# Altium integrated library Linear Technology PMIC-Switching Reg LTC1174-LTC3901.IntLib: 2647 symbols (part 210 of 310)
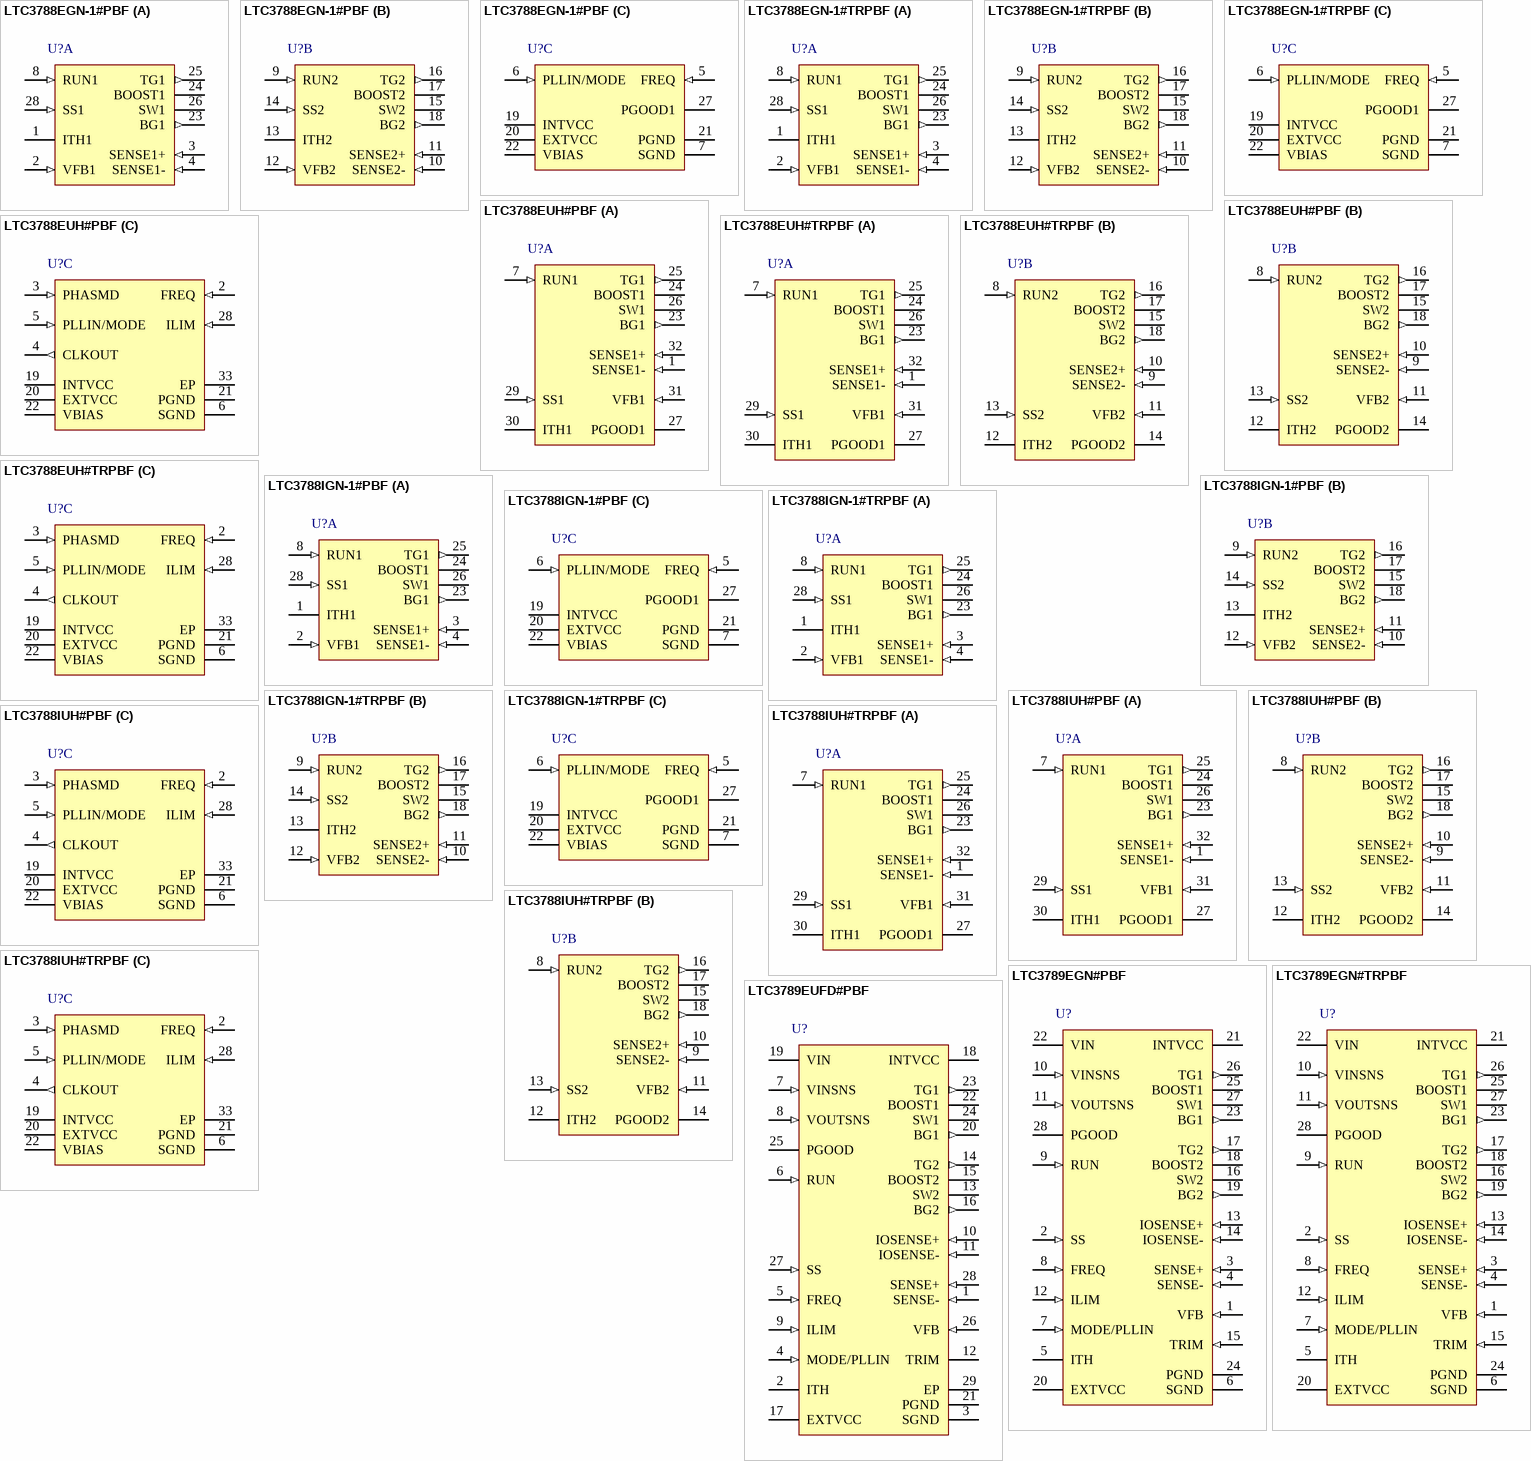
[diagram p239: symbols LTC3788EGN-1#PBF to LTC3789EUFD#PBF]

## LTC3789EUFD#PBF
designator U?
High Efficiency, Synchronous, 4-Switch Buck-Boost Controller, 28-pin QFN (UFD-28), -40 to 125 degC, Pb-Free; Manufacturer: Linear Technology; PartNumber: LTC3789EUFD#PBF; Number of Outputs: 1; PackageReference: UFD-28; PackageDescription: 28-Pin Plastic QFN, Body 5 x 4 mm, Pitch 0.5 mm; Supplier 1: Digi-Key; Supplier Part Number 1: LTC3789EUFD#PBF-ND; RoHS: TRUE; Code_JEDEC: MO-220
footprint LT-UFD-28_N (QFN, 28-Leads, Body 5.1x4.1mm, Pitch 0.5mm, Thermal Pad 3.65x2.65mm, IPC Medium Density)
footprint LT-UFD-28_L (QFN, 28-Leads, Body 5.1x4.1mm, Pitch 0.5mm, Thermal Pad 3.65x2.65mm, IPC High Density)
footprint LT-UFD-28_M (QFN, 28-Leads, Body 5.1x4.1mm, Pitch 0.5mm, Thermal Pad 3.65x2.65mm, IPC Low Density)
pins: 1 SENSE- (in) "The (-) Input to the Current Sense  Comparator.", 2 ITH "Error Amplifier Output and Switching Regulator Compensation Point. The channel’s  current comparatortrip pointincreaseswith this control voltage.", 3 SGND (power) "Small Signal Ground. Must be routed separately from high current grounds to the common (-) terminals of the CIN capacitors. In the QFN package, the exposed pad is SGND. It must be soldered to PCB ground for rated thermal (See Datasheet)", 4 MODE/PLLIN (in) "Mode Selection or External Synchronization Input to PhaseDetector. This is a dualpurpose pin. When external frequency synchronization is not used, this pin selects the operating mode. The pin can be tied to SGND or INTVCC. (See Datasheet)", 5 FREQ (in) "FrequencySetPin. Thereis a precision 10uA current flowing out of this pin. A resistor to ground  sets a voltage which, in turn, programs the frequency.  Alternatively, this pin can be driven with a DC voltage to  vary the (See Datasheet)", 6 RUN (in) "Run Control Input. Forcing the pin  below 0.5V shuts down the controller, reducing quies-  cent current. There are 1.2uA pull-up currents for this  pin. Once the RUN pin rises above 1.22V, the IC is turned  on, and an (See Datasheet)", 7 VINSNS (in) "VIN Sense Input to the Buck-Boost  Transition Comparator. Connect this pin to the drain of the  top N-channel MOSFET on the input side.", 8 VOUTSNS (in) "VOUT Sense Input to the BuckBoost Transition Comparator. Connect this pin to the drain  of the top N-channel MOSFET on the output side.", 9 ILIM (in) "Input/Output Average Current Sense Range Input. This pin tied to SGND, INTVCC or  left floating, sets the maximum average current sense  threshold.", 10 IOSENSE+ (in) "The (+) Input to the Input/Output  Average Current Sense Amplifier", 11 IOSENSE- (in) "The (-) Input to the Input/Output  Average Current Sense Amplifier.", 12 TRIM (power) "Tie this pin to GND for normal  operation. Do not allow this pin to float.", 13 SW2 "Switch Node Connections to Inductors. Voltage swing at the SW1  pin is from a Schottky diode (external) voltage drop below ground to VIN. Voltage swing at the SW2 pin is from a Schottky diode voltage drop below ground to V (See Datasheet)", 14 TG2 (out) "High Current Gate Drives for Top N-Channel MOSFETs. These are the outputs of floating drivers with a voltage swing equal to INTVCC - 0.5V superimposed on the switch node voltage SW.", 15 BOOST2 "Bootstrapped Supplies to the Top Side Floating Drivers. Capacitors are connected between the BOOST and SW pins and Schottkydiodes are tiedbetweentheBOOSTandINTVCC pins. Voltage swing at the BOOST1 pin is from INTVCC to (VIN (See Datasheet)", 16 BG2 (out) "High Current Gate Drives for Bottom (Synchronous) N-Channel MOSFETs. Voltage swing at these pins is from ground to  INTVCC.", 17 EXTVCC (power) "External Power Input to an  Internal LDO Connected to INTVCC. This LDO supplies  INTVCC power, bypassing the internal LDO powered from  VIN whenever EXTVCC is higher than 4.8V. See EXTVCC Connection in the Applications (See Datasheet)", 18 INTVCC (power) "Output of the Internal Linear Low  Dropout Regulator. The driver and control circuits are  powered from this voltage source. Must be bypassed to  powergroundwith a minimumof 4.7uF tantalum, ceramic,  or other low ESR (See Datasheet)", 19 VIN (power) "Main Supply Pin. A bypass capa-  citor should be tied between this pin and the signal  ground pin.", 20 BG1 (out) "High Current Gate Drives for Bottom (Synchronous) N-Channel MOSFETs. Voltage swing at these pins is from ground to  INTVCC.", 21 PGND (power) "Driver Power Ground. Connects  to COUT and RSENSE (-) terminal(s) of CIN", 22 BOOST1 "Bootstrapped Supplies to the Top Side Floating Drivers. Capacitors are connected between the BOOST and SW pins and Schottkydiodes are tiedbetweentheBOOSTandINTVCC pins. Voltage swing at the BOOST1 pin is from INTVCC to (VIN (See Datasheet)", 23 TG1 (out) "High Current Gate Drives for Top N-Channel MOSFETs. These are the outputs of floating drivers with a voltage swing equal to INTVCC - 0.5V superimposed on the switch node voltage SW.", 24 SW1 "Switch Node Connections to Inductors. Voltage swing at the SW1  pin is from a Schottky diode (external) voltage drop below ground to VIN. Voltage swing at the SW2 pin is from a Schottky diode voltage drop below ground to V (See Datasheet)", 25 PGOOD (oc) "Open-Drain Logic Output.  PGOOD is pulled to groundwhen the voltage on the VFB pin is notwithin +/-10% ofits regulationwindow, afterthe internal 20us power-bad mask timer expires.", 26 VFB (in) "Error Amplifier Feedback Pin. Receives  the feedback voltage for the controller from an external  resistive divider across the output.", 27 SS (in) "ExternalSoft-StartInput. TheLTC3789 regulates the VFB voltage to the smaller of 0.8V or the voltage on the SS pin. A internal 3uA pull-up current source is connected to this pin. A capacitor to ground at this pin sets the (See Datasheet)", 28 SENSE+ (in) "The (+) Input to the Current Sense  Comparator. The ITH pin voltage and controlled offsets  between the SENSE-  and SENSE+  pins, in conjunction  with RSENSE, set the current trip threshold.", 29 EP (power) "Small Signal Ground. Must be routed separately from high current grounds to the common (-) terminals of the CIN capacitors. In the QFN package, the exposed pad is SGND. It must be soldered to PCB ground for rated thermal (See Datasheet)"

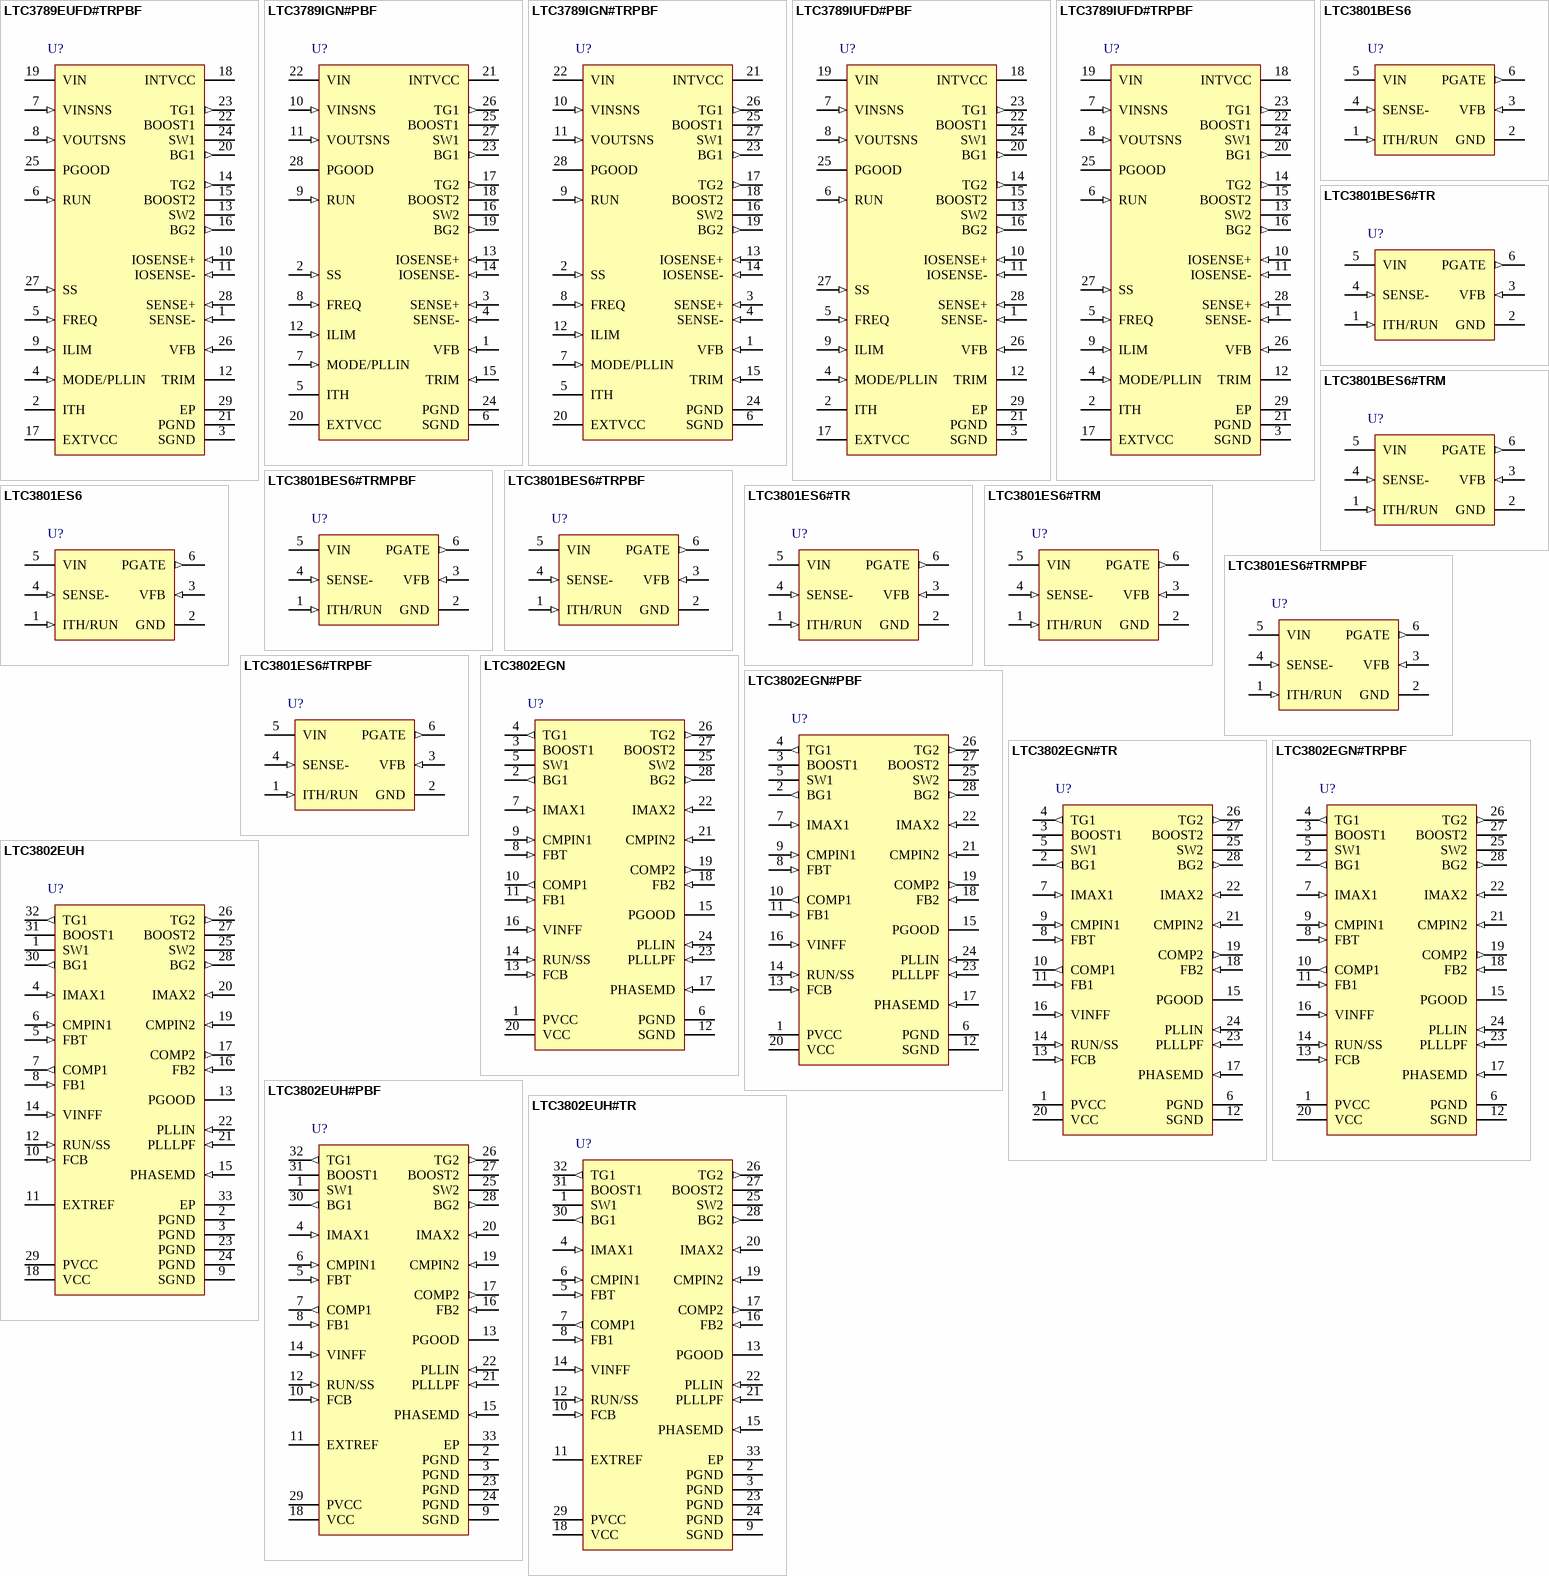
[diagram p74: symbols LTC3789EUFD#TRPBF to LTC3802EUH#TR]

## LTC3789EUFD#TRPBF
designator U?
High Efficiency, Synchronous, 4-Switch Buck-Boost Controller, 28-pin QFN (UFD-28), -40 to 125 degC, Pb-Free, Tape and Reel; Manufacturer: Linear Technology; PartNumber: LTC3789EUFD#TRPBF; Number of Outputs: 1; PackageReference: UFD-28; PackageDescription: 28-Pin Plastic QFN, Body 5 x 4 mm, Pitch 0.5 mm; Supplier 1: Digi-Key; Supplier Part Number 1: LTC3789EUFD#TRPBF-ND; RoHS: TRUE; Code_JEDEC: MO-220
footprint LT-UFD-28_N (QFN, 28-Leads, Body 5.1x4.1mm, Pitch 0.5mm, Thermal Pad 3.65x2.65mm, IPC Medium Density)
footprint LT-UFD-28_L (QFN, 28-Leads, Body 5.1x4.1mm, Pitch 0.5mm, Thermal Pad 3.65x2.65mm, IPC High Density)
footprint LT-UFD-28_M (QFN, 28-Leads, Body 5.1x4.1mm, Pitch 0.5mm, Thermal Pad 3.65x2.65mm, IPC Low Density)
pins: 1 SENSE- (in) "The (-) Input to the Current Sense  Comparator.", 2 ITH "Error Amplifier Output and Switching Regulator Compensation Point. The channel’s  current comparatortrip pointincreaseswith this control voltage.", 3 SGND (power) "Small Signal Ground. Must be routed separately from high current grounds to the common (-) terminals of the CIN capacitors. In the QFN package, the exposed pad is SGND. It must be soldered to PCB ground for rated thermal (See Datasheet)", 4 MODE/PLLIN (in) "Mode Selection or External Synchronization Input to PhaseDetector. This is a dualpurpose pin. When external frequency synchronization is not used, this pin selects the operating mode. The pin can be tied to SGND or INTVCC. (See Datasheet)", 5 FREQ (in) "FrequencySetPin. Thereis a precision 10uA current flowing out of this pin. A resistor to ground  sets a voltage which, in turn, programs the frequency.  Alternatively, this pin can be driven with a DC voltage to  vary the (See Datasheet)", 6 RUN (in) "Run Control Input. Forcing the pin  below 0.5V shuts down the controller, reducing quies-  cent current. There are 1.2uA pull-up currents for this  pin. Once the RUN pin rises above 1.22V, the IC is turned  on, and an (See Datasheet)", 7 VINSNS (in) "VIN Sense Input to the Buck-Boost  Transition Comparator. Connect this pin to the drain of the  top N-channel MOSFET on the input side.", 8 VOUTSNS (in) "VOUT Sense Input to the BuckBoost Transition Comparator. Connect this pin to the drain  of the top N-channel MOSFET on the output side.", 9 ILIM (in) "Input/Output Average Current Sense Range Input. This pin tied to SGND, INTVCC or  left floating, sets the maximum average current sense  threshold.", 10 IOSENSE+ (in) "The (+) Input to the Input/Output  Average Current Sense Amplifier", 11 IOSENSE- (in) "The (-) Input to the Input/Output  Average Current Sense Amplifier.", 12 TRIM (power) "Tie this pin to GND for normal  operation. Do not allow this pin to float.", 13 SW2 "Switch Node Connections to Inductors. Voltage swing at the SW1  pin is from a Schottky diode (external) voltage drop below ground to VIN. Voltage swing at the SW2 pin is from a Schottky diode voltage drop below ground to V (See Datasheet)", 14 TG2 (out) "High Current Gate Drives for Top N-Channel MOSFETs. These are the outputs of floating drivers with a voltage swing equal to INTVCC - 0.5V superimposed on the switch node voltage SW.", 15 BOOST2 "Bootstrapped Supplies to the Top Side Floating Drivers. Capacitors are connected between the BOOST and SW pins and Schottkydiodes are tiedbetweentheBOOSTandINTVCC pins. Voltage swing at the BOOST1 pin is from INTVCC to (VIN (See Datasheet)", 16 BG2 (out) "High Current Gate Drives for Bottom (Synchronous) N-Channel MOSFETs. Voltage swing at these pins is from ground to  INTVCC.", 17 EXTVCC (power) "External Power Input to an  Internal LDO Connected to INTVCC. This LDO supplies  INTVCC power, bypassing the internal LDO powered from  VIN whenever EXTVCC is higher than 4.8V. See EXTVCC Connection in the Applications (See Datasheet)", 18 INTVCC (power) "Output of the Internal Linear Low  Dropout Regulator. The driver and control circuits are  powered from this voltage source. Must be bypassed to  powergroundwith a minimumof 4.7uF tantalum, ceramic,  or other low ESR (See Datasheet)", 19 VIN (power) "Main Supply Pin. A bypass capa-  citor should be tied between this pin and the signal  ground pin.", 20 BG1 (out) "High Current Gate Drives for Bottom (Synchronous) N-Channel MOSFETs. Voltage swing at these pins is from ground to  INTVCC.", 21 PGND (power) "Driver Power Ground. Connects  to COUT and RSENSE (-) terminal(s) of CIN", 22 BOOST1 "Bootstrapped Supplies to the Top Side Floating Drivers. Capacitors are connected between the BOOST and SW pins and Schottkydiodes are tiedbetweentheBOOSTandINTVCC pins. Voltage swing at the BOOST1 pin is from INTVCC to (VIN (See Datasheet)", 23 TG1 (out) "High Current Gate Drives for Top N-Channel MOSFETs. These are the outputs of floating drivers with a voltage swing equal to INTVCC - 0.5V superimposed on the switch node voltage SW.", 24 SW1 "Switch Node Connections to Inductors. Voltage swing at the SW1  pin is from a Schottky diode (external) voltage drop below ground to VIN. Voltage swing at the SW2 pin is from a Schottky diode voltage drop below ground to V (See Datasheet)", 25 PGOOD (oc) "Open-Drain Logic Output.  PGOOD is pulled to groundwhen the voltage on the VFB pin is notwithin +/-10% ofits regulationwindow, afterthe internal 20us power-bad mask timer expires.", 26 VFB (in) "Error Amplifier Feedback Pin. Receives  the feedback voltage for the controller from an external  resistive divider across the output.", 27 SS (in) "ExternalSoft-StartInput. TheLTC3789 regulates the VFB voltage to the smaller of 0.8V or the voltage on the SS pin. A internal 3uA pull-up current source is connected to this pin. A capacitor to ground at this pin sets the (See Datasheet)", 28 SENSE+ (in) "The (+) Input to the Current Sense  Comparator. The ITH pin voltage and controlled offsets  between the SENSE-  and SENSE+  pins, in conjunction  with RSENSE, set the current trip threshold.", 29 EP (power) "Small Signal Ground. Must be routed separately from high current grounds to the common (-) terminals of the CIN capacitors. In the QFN package, the exposed pad is SGND. It must be soldered to PCB ground for rated thermal (See Datasheet)"

## LTC3789IGN#PBF
designator U?
High Efficiency, Synchronous, 4-Switch Buck-Boost Controller, 28-pin SOP (GN-28), -40 to 125 degC, Pb-Free; Manufacturer: Linear Technology; PartNumber: LTC3789IGN#PBF; Number of Outputs: 1; PackageReference: GN-28; PackageDescription: 28-Pin Plastic SSOP, Body 9.9 x 3.9 mm, Pitch 0.635 mm; Supplier 1: Digi-Key; Supplier Part Number 1: LTC3789IGN#PBF-ND; RoHS: TRUE
footprint LT-GN-28_N (SOP, 28-Leads, Body 9.98x3.98mm, Pitch 0.635mm, IPC Medium Density)
footprint LT-GN-28_L (SOP, 28-Leads, Body 9.98x3.98mm, Pitch 0.635mm, IPC High Density)
footprint LT-GN-28_M (SOP, 28-Leads, Body 9.98x3.98mm, Pitch 0.635mm, IPC Low Density)
pins: 1 VFB (in) "Error Amplifier Feedback Pin. Receives the feedback voltage for the controller from an external resistive divider across the output.", 2 SS (in) "External Soft-Start Input. The LTC3789 regulates the VFB voltage to the smaller of 0.8V or the voltage on the SS pin. A internal 3uA pull-up current source is connected to this pin. A capacitor to ground at this pin sets the (See Datasheet)", 3 SENSE+ (in) "The (+) Input to the Current Sense Comparator. The ITH pin voltage and controlled offsets between the SENSE- and SENSE+ pins, in conjunction with RSENSE, set the current trip threshold.", 4 SENSE- (in) "The (-) Input to the Current Sense Comparator.", 5 ITH "Error Amplifier Output and Switching Regulator Compensation Point. The channel’s current comparator trip point increases with this control voltage.", 6 SGND (power) "Small Signal Ground. Must be routed separately from high current grounds to the common (-) terminals of the CIN capacitors. In the QFN package, the exposed pad is SGND. It must be soldered to PCB ground for rated thermal (See Datasheet)", 7 MODE/PLLIN (in), 8 FREQ (in) "Frequency Set Pin. There is a precision 10uA current flowing out of this pin. A resistor to ground sets a voltage which, in turn, programs the frequency. Alternatively, this pin can be driven with a DC voltage to vary the (See Datasheet)", 9 RUN (in) "Run Control Input. Forcing the pin below 0.5V shuts down the controller, reducing quiescent current. There are 1.2uA pull-up currents for this pin. Once the RUN pin rises above 1.22V, the IC is turned on, and an additional (See Datasheet)", 10 VINSNS (in) "VIN Sense Input to the Buck-Boost Transition Comparator. Connect this pin to the drain of the top N-channel MOSFET on the input side.", 11 VOUTSNS (in) "VOUT Sense Input to the Buck- Boost Transition Comparator. Connect this pin to the drain of the top N-channel MOSFET on the output side.", 12 ILIM (in) "Input/Output Average Current Sense Range Input. This pin tied to SGND, INTVCC or left floating, sets the maximum average current sense threshold.", 13 IOSENSE+ (in) "The (+) Input to the Input/Output Average Current Sense Amplifier.", 14 IOSENSE- (in) "The (-) Input to the Input/Output Average Current Sense Amplifier.", 15 TRIM (in) "Tie this pin to GND for normal operation. Do not allow this pin to float.", 16 SW2 "Switch Node Connections to Inductors. Voltage swing at the SW1 pin is from a Schottky diode (external) voltage drop below ground to VIN. Voltage swing at the SW2 pin is from a Schottky diode voltage drop below ground to VOUT.", 17 TG2 (out) "High Current Gate Drives for Top N-Channel MOSFETs. These are the outputs of floating drivers with a voltage swing equal to INTVCC - 0.5V superimposed on the switch node voltage SW.", 18 BOOST2 "Bootstrapped Supplies to the Top Side Floating Drivers. Capacitors are connected between the BOOST and SW pins and Schottky diodes are tied between the BOOST and INTVCC pins. Voltage swing at the BOOST1 pin is from INTVCC to (See Datasheet)", 19 BG2 (out) "High Current Gate Drives for Bottom (Synchronous) N-Channel MOSFETs. Voltage swing at these pins is from ground to INTVCC.", 20 EXTVCC (power) "External Power Input to an Internal LDO Connected to INTVCC. This LDO supplies INTVCC power, bypassing the internal LDO powered from VIN whenever EXTVCC is higher than 4.8V. See EXTVCC Connection in the Applications (See Datasheet)", 21 INTVCC (power) "Output of the Internal Linear Low Dropout Regulator. The driver and control circuits are powered from this voltage source. Must be bypassed to power ground with a minimum of 4.7uF tantalum, ceramic, or other low ESR (See Datasheet)", 22 VIN (power) "Main Supply Pin. A bypass capacitor should be tied between this pin and the signal ground pin.", 23 BG1 (out) "High Current Gate Drives for Bottom (Synchronous) N-Channel MOSFETs. Voltage swing at these pins is from ground to INTVCC.", 24 PGND (power) "Driver Power Ground. Connects to COUT and RSENSE (-) terminal(s) of CIN.", 25 BOOST1 "Bootstrapped Supplies to the Top Side Floating Drivers. Capacitors are connected between the BOOST and SW pins and Schottky diodes are tied between the BOOST and INTVCC pins. Voltage swing at the BOOST1 pin is from INTVCC to (See Datasheet)", 26 TG1 (out) "High Current Gate Drives for Top N-Channel MOSFETs. These are the outputs of floating drivers with a voltage swing equal to INTVCC - 0.5V superimposed on the switch node voltage SW.", 27 SW1 "Switch Node Connections to Inductors. Voltage swing at the SW1 pin is from a Schottky diode (external) voltage drop below ground to VIN. Voltage swing at the SW2 pin is from a Schottky diode voltage drop below ground to VOUT.", 28 PGOOD (oc) "Open-Drain Logic Output. PGOOD is pulled to ground when the voltage on the VFB pin is not within +/-10% of its regulation window, after the internal 20us power-bad mask timer expires."

## LTC3789IGN#TRPBF
designator U?
High Efficiency, Synchronous, 4-Switch Buck-Boost Controller, 28-pin SOP (GN-28), -40 to 125 degC, Pb-Free, Tape and Reel; Manufacturer: Linear Technology; PartNumber: LTC3789IGN#TRPBF; Number of Outputs: 1; PackageReference: GN-28; PackageDescription: 28-Pin Plastic SSOP, Body 9.9 x 3.9 mm, Pitch 0.635 mm; Supplier 1: Digi-Key; Supplier Part Number 1: LTC3789IGN#TRPBF-ND; RoHS: TRUE
footprint LT-GN-28_N (SOP, 28-Leads, Body 9.98x3.98mm, Pitch 0.635mm, IPC Medium Density)
footprint LT-GN-28_L (SOP, 28-Leads, Body 9.98x3.98mm, Pitch 0.635mm, IPC High Density)
footprint LT-GN-28_M (SOP, 28-Leads, Body 9.98x3.98mm, Pitch 0.635mm, IPC Low Density)
pins: 1 VFB (in) "Error Amplifier Feedback Pin. Receives the feedback voltage for the controller from an external resistive divider across the output.", 2 SS (in) "External Soft-Start Input. The LTC3789 regulates the VFB voltage to the smaller of 0.8V or the voltage on the SS pin. A internal 3uA pull-up current source is connected to this pin. A capacitor to ground at this pin sets the (See Datasheet)", 3 SENSE+ (in) "The (+) Input to the Current Sense Comparator. The ITH pin voltage and controlled offsets between the SENSE- and SENSE+ pins, in conjunction with RSENSE, set the current trip threshold.", 4 SENSE- (in) "The (-) Input to the Current Sense Comparator.", 5 ITH "Error Amplifier Output and Switching Regulator Compensation Point. The channel’s current comparator trip point increases with this control voltage.", 6 SGND (power) "Small Signal Ground. Must be routed separately from high current grounds to the common (-) terminals of the CIN capacitors. In the QFN package, the exposed pad is SGND. It must be soldered to PCB ground for rated thermal (See Datasheet)", 7 MODE/PLLIN (in), 8 FREQ (in) "Frequency Set Pin. There is a precision 10uA current flowing out of this pin. A resistor to ground sets a voltage which, in turn, programs the frequency. Alternatively, this pin can be driven with a DC voltage to vary the (See Datasheet)", 9 RUN (in) "Run Control Input. Forcing the pin below 0.5V shuts down the controller, reducing quiescent current. There are 1.2uA pull-up currents for this pin. Once the RUN pin rises above 1.22V, the IC is turned on, and an additional (See Datasheet)", 10 VINSNS (in) "VIN Sense Input to the Buck-Boost Transition Comparator. Connect this pin to the drain of the top N-channel MOSFET on the input side.", 11 VOUTSNS (in) "VOUT Sense Input to the Buck- Boost Transition Comparator. Connect this pin to the drain of the top N-channel MOSFET on the output side.", 12 ILIM (in) "Input/Output Average Current Sense Range Input. This pin tied to SGND, INTVCC or left floating, sets the maximum average current sense threshold.", 13 IOSENSE+ (in) "The (+) Input to the Input/Output Average Current Sense Amplifier.", 14 IOSENSE- (in) "The (-) Input to the Input/Output Average Current Sense Amplifier.", 15 TRIM (in) "Tie this pin to GND for normal operation. Do not allow this pin to float.", 16 SW2 "Switch Node Connections to Inductors. Voltage swing at the SW1 pin is from a Schottky diode (external) voltage drop below ground to VIN. Voltage swing at the SW2 pin is from a Schottky diode voltage drop below ground to VOUT.", 17 TG2 (out) "High Current Gate Drives for Top N-Channel MOSFETs. These are the outputs of floating drivers with a voltage swing equal to INTVCC - 0.5V superimposed on the switch node voltage SW.", 18 BOOST2 "Bootstrapped Supplies to the Top Side Floating Drivers. Capacitors are connected between the BOOST and SW pins and Schottky diodes are tied between the BOOST and INTVCC pins. Voltage swing at the BOOST1 pin is from INTVCC to (See Datasheet)", 19 BG2 (out) "High Current Gate Drives for Bottom (Synchronous) N-Channel MOSFETs. Voltage swing at these pins is from ground to INTVCC.", 20 EXTVCC (power) "External Power Input to an Internal LDO Connected to INTVCC. This LDO supplies INTVCC power, bypassing the internal LDO powered from VIN whenever EXTVCC is higher than 4.8V. See EXTVCC Connection in the Applications (See Datasheet)", 21 INTVCC (power) "Output of the Internal Linear Low Dropout Regulator. The driver and control circuits are powered from this voltage source. Must be bypassed to power ground with a minimum of 4.7uF tantalum, ceramic, or other low ESR (See Datasheet)", 22 VIN (power) "Main Supply Pin. A bypass capacitor should be tied between this pin and the signal ground pin.", 23 BG1 (out) "High Current Gate Drives for Bottom (Synchronous) N-Channel MOSFETs. Voltage swing at these pins is from ground to INTVCC.", 24 PGND (power) "Driver Power Ground. Connects to COUT and RSENSE (-) terminal(s) of CIN.", 25 BOOST1 "Bootstrapped Supplies to the Top Side Floating Drivers. Capacitors are connected between the BOOST and SW pins and Schottky diodes are tied between the BOOST and INTVCC pins. Voltage swing at the BOOST1 pin is from INTVCC to (See Datasheet)", 26 TG1 (out) "High Current Gate Drives for Top N-Channel MOSFETs. These are the outputs of floating drivers with a voltage swing equal to INTVCC - 0.5V superimposed on the switch node voltage SW.", 27 SW1 "Switch Node Connections to Inductors. Voltage swing at the SW1 pin is from a Schottky diode (external) voltage drop below ground to VIN. Voltage swing at the SW2 pin is from a Schottky diode voltage drop below ground to VOUT.", 28 PGOOD (oc) "Open-Drain Logic Output. PGOOD is pulled to ground when the voltage on the VFB pin is not within +/-10% of its regulation window, after the internal 20us power-bad mask timer expires."

## LTC3789IUFD#PBF
designator U?
High Efficiency, Synchronous, 4-Switch Buck-Boost Controller, 28-pin QFN (UFD-28), -40 to 125 degC, Pb-Free; Manufacturer: Linear Technology; PartNumber: LTC3789IUFD#PBF; Number of Outputs: 1; PackageReference: UFD-28; PackageDescription: 28-Pin Plastic QFN, Body 5 x 4 mm, Pitch 0.5 mm; Supplier 1: Digi-Key; Supplier Part Number 1: LTC3789IUFD#PBF-ND; RoHS: TRUE; Code_JEDEC: MO-220
footprint LT-UFD-28_N (QFN, 28-Leads, Body 5.1x4.1mm, Pitch 0.5mm, Thermal Pad 3.65x2.65mm, IPC Medium Density)
footprint LT-UFD-28_L (QFN, 28-Leads, Body 5.1x4.1mm, Pitch 0.5mm, Thermal Pad 3.65x2.65mm, IPC High Density)
footprint LT-UFD-28_M (QFN, 28-Leads, Body 5.1x4.1mm, Pitch 0.5mm, Thermal Pad 3.65x2.65mm, IPC Low Density)
pins: 1 SENSE- (in) "The (-) Input to the Current Sense  Comparator.", 2 ITH "Error Amplifier Output and Switching Regulator Compensation Point. The channel’s  current comparatortrip pointincreaseswith this control voltage.", 3 SGND (power) "Small Signal Ground. Must be routed separately from high current grounds to the common (-) terminals of the CIN capacitors. In the QFN package, the exposed pad is SGND. It must be soldered to PCB ground for rated thermal (See Datasheet)", 4 MODE/PLLIN (in) "Mode Selection or External Synchronization Input to PhaseDetector. This is a dualpurpose pin. When external frequency synchronization is not used, this pin selects the operating mode. The pin can be tied to SGND or INTVCC. (See Datasheet)", 5 FREQ (in) "FrequencySetPin. Thereis a precision 10uA current flowing out of this pin. A resistor to ground  sets a voltage which, in turn, programs the frequency.  Alternatively, this pin can be driven with a DC voltage to  vary the (See Datasheet)", 6 RUN (in) "Run Control Input. Forcing the pin  below 0.5V shuts down the controller, reducing quies-  cent current. There are 1.2uA pull-up currents for this  pin. Once the RUN pin rises above 1.22V, the IC is turned  on, and an (See Datasheet)", 7 VINSNS (in) "VIN Sense Input to the Buck-Boost  Transition Comparator. Connect this pin to the drain of the  top N-channel MOSFET on the input side.", 8 VOUTSNS (in) "VOUT Sense Input to the BuckBoost Transition Comparator. Connect this pin to the drain  of the top N-channel MOSFET on the output side.", 9 ILIM (in) "Input/Output Average Current Sense Range Input. This pin tied to SGND, INTVCC or  left floating, sets the maximum average current sense  threshold.", 10 IOSENSE+ (in) "The (+) Input to the Input/Output  Average Current Sense Amplifier", 11 IOSENSE- (in) "The (-) Input to the Input/Output  Average Current Sense Amplifier.", 12 TRIM (power) "Tie this pin to GND for normal  operation. Do not allow this pin to float.", 13 SW2 "Switch Node Connections to Inductors. Voltage swing at the SW1  pin is from a Schottky diode (external) voltage drop below ground to VIN. Voltage swing at the SW2 pin is from a Schottky diode voltage drop below ground to V (See Datasheet)", 14 TG2 (out) "High Current Gate Drives for Top N-Channel MOSFETs. These are the outputs of floating drivers with a voltage swing equal to INTVCC - 0.5V superimposed on the switch node voltage SW.", 15 BOOST2 "Bootstrapped Supplies to the Top Side Floating Drivers. Capacitors are connected between the BOOST and SW pins and Schottkydiodes are tiedbetweentheBOOSTandINTVCC pins. Voltage swing at the BOOST1 pin is from INTVCC to (VIN (See Datasheet)", 16 BG2 (out) "High Current Gate Drives for Bottom (Synchronous) N-Channel MOSFETs. Voltage swing at these pins is from ground to  INTVCC.", 17 EXTVCC (power) "External Power Input to an  Internal LDO Connected to INTVCC. This LDO supplies  INTVCC power, bypassing the internal LDO powered from  VIN whenever EXTVCC is higher than 4.8V. See EXTVCC Connection in the Applications (See Datasheet)", 18 INTVCC (power) "Output of the Internal Linear Low  Dropout Regulator. The driver and control circuits are  powered from this voltage source. Must be bypassed to  powergroundwith a minimumof 4.7uF tantalum, ceramic,  or other low ESR (See Datasheet)", 19 VIN (power) "Main Supply Pin. A bypass capa-  citor should be tied between this pin and the signal  ground pin.", 20 BG1 (out) "High Current Gate Drives for Bottom (Synchronous) N-Channel MOSFETs. Voltage swing at these pins is from ground to  INTVCC.", 21 PGND (power) "Driver Power Ground. Connects  to COUT and RSENSE (-) terminal(s) of CIN", 22 BOOST1 "Bootstrapped Supplies to the Top Side Floating Drivers. Capacitors are connected between the BOOST and SW pins and Schottkydiodes are tiedbetweentheBOOSTandINTVCC pins. Voltage swing at the BOOST1 pin is from INTVCC to (VIN (See Datasheet)", 23 TG1 (out) "High Current Gate Drives for Top N-Channel MOSFETs. These are the outputs of floating drivers with a voltage swing equal to INTVCC - 0.5V superimposed on the switch node voltage SW.", 24 SW1 "Switch Node Connections to Inductors. Voltage swing at the SW1  pin is from a Schottky diode (external) voltage drop below ground to VIN. Voltage swing at the SW2 pin is from a Schottky diode voltage drop below ground to V (See Datasheet)", 25 PGOOD (oc) "Open-Drain Logic Output.  PGOOD is pulled to groundwhen the voltage on the VFB pin is notwithin +/-10% ofits regulationwindow, afterthe internal 20us power-bad mask timer expires.", 26 VFB (in) "Error Amplifier Feedback Pin. Receives  the feedback voltage for the controller from an external  resistive divider across the output.", 27 SS (in) "ExternalSoft-StartInput. TheLTC3789 regulates the VFB voltage to the smaller of 0.8V or the voltage on the SS pin. A internal 3uA pull-up current source is connected to this pin. A capacitor to ground at this pin sets the (See Datasheet)", 28 SENSE+ (in) "The (+) Input to the Current Sense  Comparator. The ITH pin voltage and controlled offsets  between the SENSE-  and SENSE+  pins, in conjunction  with RSENSE, set the current trip threshold.", 29 EP (power) "Small Signal Ground. Must be routed separately from high current grounds to the common (-) terminals of the CIN capacitors. In the QFN package, the exposed pad is SGND. It must be soldered to PCB ground for rated thermal (See Datasheet)"

## LTC3789IUFD#TRPBF
designator U?
High Efficiency, Synchronous, 4-Switch Buck-Boost Controller, 28-pin QFN (UFD-28), -40 to 125 degC, Pb-Free, Tape and Reel; Manufacturer: Linear Technology; PartNumber: LTC3789IUFD#TRPBF; Number of Outputs: 1; PackageReference: UFD-28; PackageDescription: 28-Pin Plastic QFN, Body 5 x 4 mm, Pitch 0.5 mm; Supplier 1: Digi-Key; Supplier Part Number 1: LTC3789IUFD#TRPBF-ND; RoHS: TRUE; Code_JEDEC: MO-220
footprint LT-UFD-28_N (QFN, 28-Leads, Body 5.1x4.1mm, Pitch 0.5mm, Thermal Pad 3.65x2.65mm, IPC Medium Density)
footprint LT-UFD-28_L (QFN, 28-Leads, Body 5.1x4.1mm, Pitch 0.5mm, Thermal Pad 3.65x2.65mm, IPC High Density)
footprint LT-UFD-28_M (QFN, 28-Leads, Body 5.1x4.1mm, Pitch 0.5mm, Thermal Pad 3.65x2.65mm, IPC Low Density)
pins: 1 SENSE- (in) "The (-) Input to the Current Sense  Comparator.", 2 ITH "Error Amplifier Output and Switching Regulator Compensation Point. The channel’s  current comparatortrip pointincreaseswith this control voltage.", 3 SGND (power) "Small Signal Ground. Must be routed separately from high current grounds to the common (-) terminals of the CIN capacitors. In the QFN package, the exposed pad is SGND. It must be soldered to PCB ground for rated thermal (See Datasheet)", 4 MODE/PLLIN (in) "Mode Selection or External Synchronization Input to PhaseDetector. This is a dualpurpose pin. When external frequency synchronization is not used, this pin selects the operating mode. The pin can be tied to SGND or INTVCC. (See Datasheet)", 5 FREQ (in) "FrequencySetPin. Thereis a precision 10uA current flowing out of this pin. A resistor to ground  sets a voltage which, in turn, programs the frequency.  Alternatively, this pin can be driven with a DC voltage to  vary the (See Datasheet)", 6 RUN (in) "Run Control Input. Forcing the pin  below 0.5V shuts down the controller, reducing quies-  cent current. There are 1.2uA pull-up currents for this  pin. Once the RUN pin rises above 1.22V, the IC is turned  on, and an (See Datasheet)", 7 VINSNS (in) "VIN Sense Input to the Buck-Boost  Transition Comparator. Connect this pin to the drain of the  top N-channel MOSFET on the input side.", 8 VOUTSNS (in) "VOUT Sense Input to the BuckBoost Transition Comparator. Connect this pin to the drain  of the top N-channel MOSFET on the output side.", 9 ILIM (in) "Input/Output Average Current Sense Range Input. This pin tied to SGND, INTVCC or  left floating, sets the maximum average current sense  threshold.", 10 IOSENSE+ (in) "The (+) Input to the Input/Output  Average Current Sense Amplifier", 11 IOSENSE- (in) "The (-) Input to the Input/Output  Average Current Sense Amplifier.", 12 TRIM (power) "Tie this pin to GND for normal  operation. Do not allow this pin to float.", 13 SW2 "Switch Node Connections to Inductors. Voltage swing at the SW1  pin is from a Schottky diode (external) voltage drop below ground to VIN. Voltage swing at the SW2 pin is from a Schottky diode voltage drop below ground to V (See Datasheet)", 14 TG2 (out) "High Current Gate Drives for Top N-Channel MOSFETs. These are the outputs of floating drivers with a voltage swing equal to INTVCC - 0.5V superimposed on the switch node voltage SW.", 15 BOOST2 "Bootstrapped Supplies to the Top Side Floating Drivers. Capacitors are connected between the BOOST and SW pins and Schottkydiodes are tiedbetweentheBOOSTandINTVCC pins. Voltage swing at the BOOST1 pin is from INTVCC to (VIN (See Datasheet)", 16 BG2 (out) "High Current Gate Drives for Bottom (Synchronous) N-Channel MOSFETs. Voltage swing at these pins is from ground to  INTVCC.", 17 EXTVCC (power) "External Power Input to an  Internal LDO Connected to INTVCC. This LDO supplies  INTVCC power, bypassing the internal LDO powered from  VIN whenever EXTVCC is higher than 4.8V. See EXTVCC Connection in the Applications (See Datasheet)", 18 INTVCC (power) "Output of the Internal Linear Low  Dropout Regulator. The driver and control circuits are  powered from this voltage source. Must be bypassed to  powergroundwith a minimumof 4.7uF tantalum, ceramic,  or other low ESR (See Datasheet)", 19 VIN (power) "Main Supply Pin. A bypass capa-  citor should be tied between this pin and the signal  ground pin.", 20 BG1 (out) "High Current Gate Drives for Bottom (Synchronous) N-Channel MOSFETs. Voltage swing at these pins is from ground to  INTVCC.", 21 PGND (power) "Driver Power Ground. Connects  to COUT and RSENSE (-) terminal(s) of CIN", 22 BOOST1 "Bootstrapped Supplies to the Top Side Floating Drivers. Capacitors are connected between the BOOST and SW pins and Schottkydiodes are tiedbetweentheBOOSTandINTVCC pins. Voltage swing at the BOOST1 pin is from INTVCC to (VIN (See Datasheet)", 23 TG1 (out) "High Current Gate Drives for Top N-Channel MOSFETs. These are the outputs of floating drivers with a voltage swing equal to INTVCC - 0.5V superimposed on the switch node voltage SW.", 24 SW1 "Switch Node Connections to Inductors. Voltage swing at the SW1  pin is from a Schottky diode (external) voltage drop below ground to VIN. Voltage swing at the SW2 pin is from a Schottky diode voltage drop below ground to V (See Datasheet)", 25 PGOOD (oc) "Open-Drain Logic Output.  PGOOD is pulled to groundwhen the voltage on the VFB pin is notwithin +/-10% ofits regulationwindow, afterthe internal 20us power-bad mask timer expires.", 26 VFB (in) "Error Amplifier Feedback Pin. Receives  the feedback voltage for the controller from an external  resistive divider across the output.", 27 SS (in) "ExternalSoft-StartInput. TheLTC3789 regulates the VFB voltage to the smaller of 0.8V or the voltage on the SS pin. A internal 3uA pull-up current source is connected to this pin. A capacitor to ground at this pin sets the (See Datasheet)", 28 SENSE+ (in) "The (+) Input to the Current Sense  Comparator. The ITH pin voltage and controlled offsets  between the SENSE-  and SENSE+  pins, in conjunction  with RSENSE, set the current trip threshold.", 29 EP (power) "Small Signal Ground. Must be routed separately from high current grounds to the common (-) terminals of the CIN capacitors. In the QFN package, the exposed pad is SGND. It must be soldered to PCB ground for rated thermal (See Datasheet)"

## LTC3801BES6
designator U?
Micropower Constant Frequency Step-Down DC/DC Controller, No Burst Mode, 6-pin SOT23 (S6-6), -40 to 85 degC; Manufacturer: Linear Technology; PartNumber: LTC3801BES6; Number of Outputs: 1; PackageReference: S6-6; PackageDescription: 6-Pin Plastic TSOT-23, Body 2.9 x 1.63 mm, Pitch 0.95 mm; RoHS: FALSE; Code_JEDEC: MO-193
footprint LT-S6-6-TSOT-23_N (SOT23, 6-Leads, Body 2.9x1.75mm, Pitch 0.95mm, IPC Medium Density)
footprint LT-S6-6-TSOT-23_L (SOT23, 6-Leads, Body 2.9x1.75mm, Pitch 0.95mm, IPC High Density)
footprint LT-S6-6-TSOT-23_M (SOT23, 6-Leads, Body 2.9x1.75mm, Pitch 0.95mm, IPC Low Density)
pins: 1 ITH/RUN (in), 2 GND (power) "Ground Pin.", 3 VFB (in), 4 SENSE- (in), 5 VIN (power), 6 PGATE (out) "Gate Drive for the External P-Channel MOSFET. This pin swings from 0V to VIN."

## LTC3801BES6#TR
designator U?
Micropower Constant Frequency Step-Down DC/DC Controller, No Burst Mode, 6-pin SOT23 (S6-6), -40 to 85 degC, Pb-Free, Tape and Reel; Manufacturer: Linear Technology; PartNumber: LTC3801BES6#TR; Number of Outputs: 1; PackageReference: S6-6; PackageDescription: 6-Pin Plastic TSOT-23, Body 2.9 x 1.63 mm, Pitch 0.95 mm; Supplier 1: Digi-Key; Supplier Part Number 1: LTC3801BES6#TR-ND; RoHS: FALSE; Code_JEDEC: MO-193
footprint LT-S6-6-TSOT-23_N (SOT23, 6-Leads, Body 2.9x1.75mm, Pitch 0.95mm, IPC Medium Density)
footprint LT-S6-6-TSOT-23_L (SOT23, 6-Leads, Body 2.9x1.75mm, Pitch 0.95mm, IPC High Density)
footprint LT-S6-6-TSOT-23_M (SOT23, 6-Leads, Body 2.9x1.75mm, Pitch 0.95mm, IPC Low Density)
pins: 1 ITH/RUN (in), 2 GND (power) "Ground Pin.", 3 VFB (in), 4 SENSE- (in), 5 VIN (power), 6 PGATE (out) "Gate Drive for the External P-Channel MOSFET. This pin swings from 0V to VIN."

## LTC3801BES6#TRM
designator U?
Micropower Constant Frequency Step-Down DC/DC Controller, No Burst Mode, 6-pin SOT23 (S6-6), -40 to 85 degC, Mini Tape and Reel; Manufacturer: Linear Technology; PartNumber: LTC3801BES6#TRM; Number of Outputs: 1; PackageReference: S6-6; PackageDescription: 6-Pin Plastic TSOT-23, Body 2.9 x 1.63 mm, Pitch 0.95 mm; Supplier 1: Digi-Key; Supplier Part Number 1: LTC3801BES6#TRM-ND; RoHS: FALSE; Code_JEDEC: MO-193
footprint LT-S6-6-TSOT-23_N (SOT23, 6-Leads, Body 2.9x1.75mm, Pitch 0.95mm, IPC Medium Density)
footprint LT-S6-6-TSOT-23_L (SOT23, 6-Leads, Body 2.9x1.75mm, Pitch 0.95mm, IPC High Density)
footprint LT-S6-6-TSOT-23_M (SOT23, 6-Leads, Body 2.9x1.75mm, Pitch 0.95mm, IPC Low Density)
pins: 1 ITH/RUN (in), 2 GND (power) "Ground Pin.", 3 VFB (in), 4 SENSE- (in), 5 VIN (power), 6 PGATE (out) "Gate Drive for the External P-Channel MOSFET. This pin swings from 0V to VIN."

## LTC3801BES6#TRMPBF
designator U?
Micropower Constant Frequency Step-Down DC/DC Controller, No Burst Mode, 6-pin SOT23 (S6-6), -40 to 85 degC, Pb-Free, Mini Tape and Reel; Manufacturer: Linear Technology; PartNumber: LTC3801BES6#TRMPBF; Number of Outputs: 1; PackageReference: S6-6; PackageDescription: 6-Pin Plastic TSOT-23, Body 2.9 x 1.63 mm, Pitch 0.95 mm; Supplier 1: Digi-Key; Supplier Part Number 1: LTC3801BES6#TRMPBF-ND; RoHS: TRUE; Code_JEDEC: MO-193
footprint LT-S6-6-TSOT-23_N (SOT23, 6-Leads, Body 2.9x1.75mm, Pitch 0.95mm, IPC Medium Density)
footprint LT-S6-6-TSOT-23_L (SOT23, 6-Leads, Body 2.9x1.75mm, Pitch 0.95mm, IPC High Density)
footprint LT-S6-6-TSOT-23_M (SOT23, 6-Leads, Body 2.9x1.75mm, Pitch 0.95mm, IPC Low Density)
pins: 1 ITH/RUN (in), 2 GND (power) "Ground Pin.", 3 VFB (in), 4 SENSE- (in), 5 VIN (power), 6 PGATE (out) "Gate Drive for the External P-Channel MOSFET. This pin swings from 0V to VIN."

## LTC3801BES6#TRPBF
designator U?
Micropower Constant Frequency Step-Down DC/DC Controller, No Burst Mode, 6-pin SOT23 (S6-6), -40 to 85 degC, Pb-Free, Tape and Reel; Manufacturer: Linear Technology; PartNumber: LTC3801BES6#TRPBF; Number of Outputs: 1; PackageReference: S6-6; PackageDescription: 6-Pin Plastic TSOT-23, Body 2.9 x 1.63 mm, Pitch 0.95 mm; Supplier 1: Digi-Key; Supplier Part Number 1: LTC3801BES6#TRPBF-ND; RoHS: TRUE; Code_JEDEC: MO-193
footprint LT-S6-6-TSOT-23_N (SOT23, 6-Leads, Body 2.9x1.75mm, Pitch 0.95mm, IPC Medium Density)
footprint LT-S6-6-TSOT-23_L (SOT23, 6-Leads, Body 2.9x1.75mm, Pitch 0.95mm, IPC High Density)
footprint LT-S6-6-TSOT-23_M (SOT23, 6-Leads, Body 2.9x1.75mm, Pitch 0.95mm, IPC Low Density)
pins: 1 ITH/RUN (in), 2 GND (power) "Ground Pin.", 3 VFB (in), 4 SENSE- (in), 5 VIN (power), 6 PGATE (out) "Gate Drive for the External P-Channel MOSFET. This pin swings from 0V to VIN."

## LTC3801ES6
designator U?
Micropower Constant Frequency Step-Down DC/DC Controller, 6-pin SOT23 (S6-6), -40 to 85 degC; Manufacturer: Linear Technology; PartNumber: LTC3801ES6; Number of Outputs: 1; PackageReference: S6-6; PackageDescription: 6-Pin Plastic TSOT-23, Body 2.9 x 1.63 mm, Pitch 0.95 mm; RoHS: FALSE; Code_JEDEC: MO-193
footprint LT-S6-6-TSOT-23_N (SOT23, 6-Leads, Body 2.9x1.75mm, Pitch 0.95mm, IPC Medium Density)
footprint LT-S6-6-TSOT-23_L (SOT23, 6-Leads, Body 2.9x1.75mm, Pitch 0.95mm, IPC High Density)
footprint LT-S6-6-TSOT-23_M (SOT23, 6-Leads, Body 2.9x1.75mm, Pitch 0.95mm, IPC Low Density)
pins: 1 ITH/RUN (in), 2 GND (power) "Ground Pin.", 3 VFB (in), 4 SENSE- (in), 5 VIN (power), 6 PGATE (out) "Gate Drive for the External P-Channel MOSFET. This pin swings from 0V to VIN."

## LTC3801ES6#TR
designator U?
Micropower Constant Frequency Step-Down DC/DC Controller, 6-pin SOT23 (S6-6), -40 to 85 degC, Pb-Free, Tape and Reel; Manufacturer: Linear Technology; PartNumber: LTC3801ES6#TR; Number of Outputs: 1; PackageReference: S6-6; PackageDescription: 6-Pin Plastic TSOT-23, Body 2.9 x 1.63 mm, Pitch 0.95 mm; Supplier 1: Digi-Key; Supplier Part Number 1: LTC3801ES6#TR-ND; RoHS: FALSE; Code_JEDEC: MO-193
footprint LT-S6-6-TSOT-23_N (SOT23, 6-Leads, Body 2.9x1.75mm, Pitch 0.95mm, IPC Medium Density)
footprint LT-S6-6-TSOT-23_L (SOT23, 6-Leads, Body 2.9x1.75mm, Pitch 0.95mm, IPC High Density)
footprint LT-S6-6-TSOT-23_M (SOT23, 6-Leads, Body 2.9x1.75mm, Pitch 0.95mm, IPC Low Density)
pins: 1 ITH/RUN (in), 2 GND (power) "Ground Pin.", 3 VFB (in), 4 SENSE- (in), 5 VIN (power), 6 PGATE (out) "Gate Drive for the External P-Channel MOSFET. This pin swings from 0V to VIN."

## LTC3801ES6#TRM
designator U?
Micropower Constant Frequency Step-Down DC/DC Controller, 6-pin SOT23 (S6-6), -40 to 85 degC, Mini Tape and Reel; Manufacturer: Linear Technology; PartNumber: LTC3801ES6#TRM; Number of Outputs: 1; PackageReference: S6-6; PackageDescription: 6-Pin Plastic TSOT-23, Body 2.9 x 1.63 mm, Pitch 0.95 mm; Supplier 1: Digi-Key; Supplier Part Number 1: LTC3801ES6#TRM-ND; RoHS: FALSE; Code_JEDEC: MO-193
footprint LT-S6-6-TSOT-23_N (SOT23, 6-Leads, Body 2.9x1.75mm, Pitch 0.95mm, IPC Medium Density)
footprint LT-S6-6-TSOT-23_L (SOT23, 6-Leads, Body 2.9x1.75mm, Pitch 0.95mm, IPC High Density)
footprint LT-S6-6-TSOT-23_M (SOT23, 6-Leads, Body 2.9x1.75mm, Pitch 0.95mm, IPC Low Density)
pins: 1 ITH/RUN (in), 2 GND (power) "Ground Pin.", 3 VFB (in), 4 SENSE- (in), 5 VIN (power), 6 PGATE (out) "Gate Drive for the External P-Channel MOSFET. This pin swings from 0V to VIN."

## LTC3801ES6#TRMPBF
designator U?
Micropower Constant Frequency Step-Down DC/DC Controller, 6-pin SOT23 (S6-6), -40 to 85 degC, Pb-Free, Mini Tape and Reel; Manufacturer: Linear Technology; PartNumber: LTC3801ES6#TRMPBF; Number of Outputs: 1; PackageReference: S6-6; PackageDescription: 6-Pin Plastic TSOT-23, Body 2.9 x 1.63 mm, Pitch 0.95 mm; Supplier 1: Digi-Key; Supplier Part Number 1: LTC3801ES6#TRMPBF-ND; RoHS: TRUE; Code_JEDEC: MO-193
footprint LT-S6-6-TSOT-23_N (SOT23, 6-Leads, Body 2.9x1.75mm, Pitch 0.95mm, IPC Medium Density)
footprint LT-S6-6-TSOT-23_L (SOT23, 6-Leads, Body 2.9x1.75mm, Pitch 0.95mm, IPC High Density)
footprint LT-S6-6-TSOT-23_M (SOT23, 6-Leads, Body 2.9x1.75mm, Pitch 0.95mm, IPC Low Density)
pins: 1 ITH/RUN (in), 2 GND (power) "Ground Pin.", 3 VFB (in), 4 SENSE- (in), 5 VIN (power), 6 PGATE (out) "Gate Drive for the External P-Channel MOSFET. This pin swings from 0V to VIN."

## LTC3801ES6#TRPBF
designator U?
Micropower Constant Frequency Step-Down DC/DC Controller, 6-pin SOT23 (S6-6), -40 to 85 degC, Pb-Free, Tape and Reel; Manufacturer: Linear Technology; PartNumber: LTC3801ES6#TRPBF; Number of Outputs: 1; PackageReference: S6-6; PackageDescription: 6-Pin Plastic TSOT-23, Body 2.9 x 1.63 mm, Pitch 0.95 mm; Supplier 1: Digi-Key; Supplier Part Number 1: LTC3801ES6#TRPBF-ND; RoHS: TRUE; Code_JEDEC: MO-193
footprint LT-S6-6-TSOT-23_N (SOT23, 6-Leads, Body 2.9x1.75mm, Pitch 0.95mm, IPC Medium Density)
footprint LT-S6-6-TSOT-23_L (SOT23, 6-Leads, Body 2.9x1.75mm, Pitch 0.95mm, IPC High Density)
footprint LT-S6-6-TSOT-23_M (SOT23, 6-Leads, Body 2.9x1.75mm, Pitch 0.95mm, IPC Low Density)
pins: 1 ITH/RUN (in), 2 GND (power) "Ground Pin.", 3 VFB (in), 4 SENSE- (in), 5 VIN (power), 6 PGATE (out) "Gate Drive for the External P-Channel MOSFET. This pin swings from 0V to VIN."